# EAGLE library part BD622XFP (library dviid)
Full H-bridge driver - 2 channel - PWM control
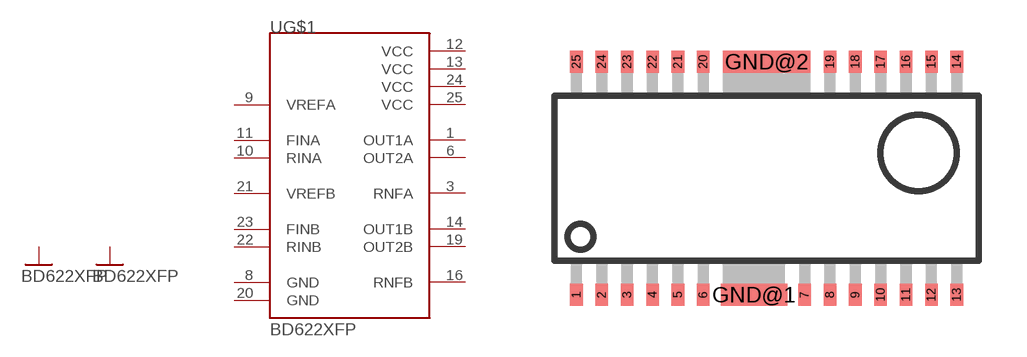
[diagram p16: symbol with the pads of HSOP25; footprint HSOP25]

Designator prefix -; gates G$1=BD622XFP G$2=GND G$3=GND

## BD622XFPBD622XFP-HSOP25  [HSOP25]
1  G$1:OUT1A
3  G$1:RNFA
6  G$1:OUT2A
8  G$1:GND  pwr
9  G$1:VREFA  pwr
10  G$1:RINA
11  G$1:FINA
12  G$1:VCC  pwr
13  G$1:VCC  pwr
14  G$1:OUT1B
16  G$1:RNFB
19  G$1:OUT2B
20  G$1:GND  pwr
21  G$1:VREFB  pwr
22  G$1:RINB
23  G$1:FINB
24  G$1:VCC  pwr
25  G$1:VCC  pwr
GND@1  G$2:GND  sup
GND@2  G$3:GND  sup

## Footprint HSOP25 (pad centres in mm)
HSOP 25 Source: http://www.rohm.com/products/databook/motor/pdf/bd623x_series-e.pdf
smd 0.4 x 0.7: 1 -6,-3.675; 2 -5.2,-3.675; 3 -4.4,-3.675; 4 -3.6,-3.675; 5 -2.8,-3.675; 6 -2,-3.675; 7 1.2,-3.675; 8 2,-3.675; 9 2.8,-3.675; 10 3.6,-3.675; 11 4.4,-3.675; 12 5.2,-3.675; 13 6,-3.675; 14 6,3.675; 15 5.2,3.675; 16 4.4,3.675; 17 3.6,3.675; 18 2.8,3.675; 19 2,3.675; 20 -2,3.675; 21 -2.8,3.675; 22 -3.6,3.675; 23 -4.4,3.675; 24 -5.2,3.675; 25 -6,3.675
smd 2.1 x 0.7: GND@1 -0.4,-3.675
smd 2.75 x 0.7: GND@2 0,3.675